# Altium schematic symbol library TPSM53602RDAR.SchLib: 2 symbols
Pins are listed as number, name and electrical type; pins without a type are passive.

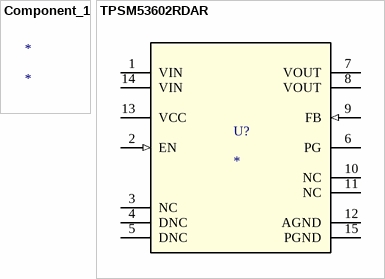
[diagram p0: symbols Component_1 to TPSM53602RDAR]

## Component_1
designator *

## TPSM53602RDAR
designator U?
No Description Available; Manufacturer: Texas Instruments; PartNumber: TPSM53602RDAR; RefDes: RefDes; Type: DEV; Value: Value; Copyright: Copyright (C) 2018 Accelerated Designs. All rights reserved
footprint RDA0015A
pins: 1 VIN (power), 2 EN (in), 3 NC, 4 DNC, 5 DNC, 6 PG (oc), 7 VOUT (power), 8 VOUT (power), 9 FB (in), 10 NC, 11 NC, 12 AGND (power), 13 VCC (power), 14 VIN (power), 15 PGND (power)